# Altium footprint library XTAL_ABLS-8.000MHz-20-D-3-H-T.PcbLib: 4 footprints
Each footprint in its own frame and in the unit in brackets; x right, y up, seen from the top. Pads: shape width x height; smd on the part's side, far side on the other; paste and mask are expansions set on the pad; w line width, h text height; cw(c..) or ccw(c..) is an arc to the next point about the centre after c.
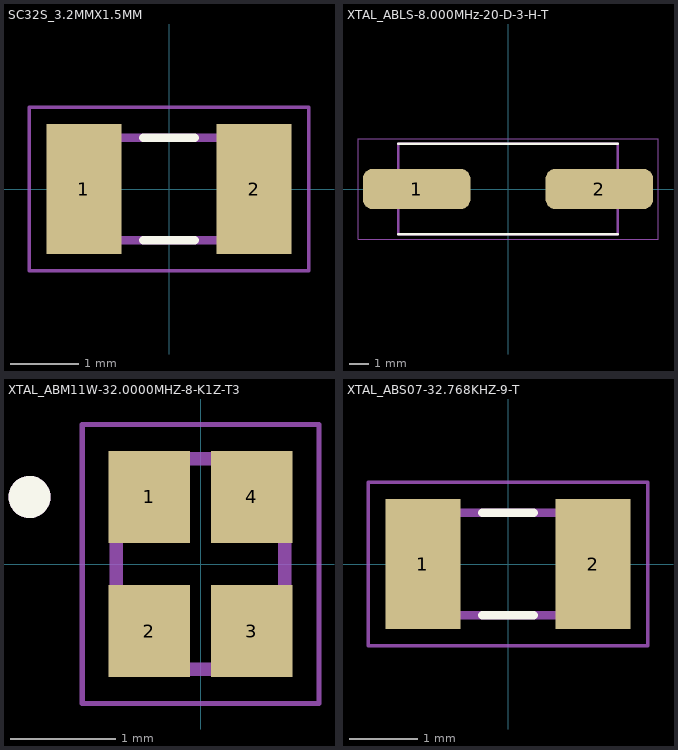
[diagram p0: the footprints below, top view; thin cyan lines are the x and y axes]

## SC32S_3.2MMX1.5MM [mm]
pads (2):
  rect 1.1x1.9 smd: 1(-1.25,0) 2(1.25,0)
Top Overlay:
  lines w0.127: -0.38,-0.75 0.38,-0.75 ; -0.38,0.75 0.38,0.75
Mechanical 13:
  lines w0.127: -1.6,-0.75 -1.6,0.75 1.6,0.75 1.6,-0.75 -1.6,-0.75
Mechanical 15:
  lines w0.05: -2.05,-1.2 -2.05,1.2 2.05,1.2 2.05,-1.2 -2.05,-1.2
3D body "step_temp.STEP": height 0.89, standoff 0, extent -1.6,-0.749 1.6,0.749

## XTAL_ABLS-8.000MHz-20-D-3-H-T [mm]
height 4.2
pads (2):
  rrect50% 5.6x2.1 smd: 1(-4.75,0) 2(4.75,0)
Top Overlay:
  lines w0.127: -5.7,-2.35 5.7,-2.35 ; -5.7,2.35 5.7,2.35
Mechanical 13:
  lines w0.127: -5.7,-2.35 5.7,-2.35 5.7,2.35 -5.7,2.35 -5.7,-2.35
Mechanical 15:
  lines w0.05: -7.8,-2.6 7.8,-2.6 7.8,2.6 -7.8,2.6 -7.8,-2.6
3D body "step_temp.STEP": height 4.06, standoff -0.1, extent -6.35,-2.349 6.35,2.349

## XTAL_ABM11W-32.0000MHZ-8-K1Z-T3 [mm]
pads (4):
  rect 0.775x0.875 smd: 1(-0.487,0.637) 2(-0.487,-0.637) 3(0.487,-0.637) 4(0.487,0.637)
Top Overlay:
  circle w0.2: c-1.625,0.637 r0.1
Mechanical 13:
  circle w0.2: c-1.625,0.637 r0.1
  lines w0.127: -0.8,-1 0.8,-1 0.8,1 -0.8,1 -0.8,-1
Mechanical 15:
  lines w0.05: -1.125,-1.325 1.125,-1.325 1.125,1.325 -1.125,1.325 -1.125,-1.325
3D body "step_temp.STEP": height 0.5, standoff 0, extent -0.8,-1 0.8,1

## XTAL_ABS07-32.768KHZ-9-T [mm]
pads (2):
  rect 1.1x1.9 smd: 1(-1.25,0) 2(1.25,0)
Top Overlay:
  lines w0.127: -0.38,-0.75 0.38,-0.75 ; -0.38,0.75 0.38,0.75
Mechanical 13:
  lines w0.127: -1.6,-0.75 1.6,-0.75 1.6,0.75 -1.6,0.75 -1.6,-0.75
Mechanical 15:
  lines w0.05: -2.05,-1.2 2.05,-1.2 2.05,1.2 -2.05,1.2 -2.05,-1.2
3D body "step_temp.STEP": height 0.9, standoff 0, extent -1.6,-0.75 1.6,0.75